# Altium footprint library SOT-23-6_L2.9-W1.6-P0.95-LS2.8-BL-1_2024-04-30.PcbLib: 1 footprints
Each footprint in its own frame and in the unit in brackets; x right, y up, seen from the top. Pads: shape width x height; smd on the part's side, far side on the other; paste and mask are expansions set on the pad; w line width, h text height; cw(c..) or ccw(c..) is an arc to the next point about the centre after c.
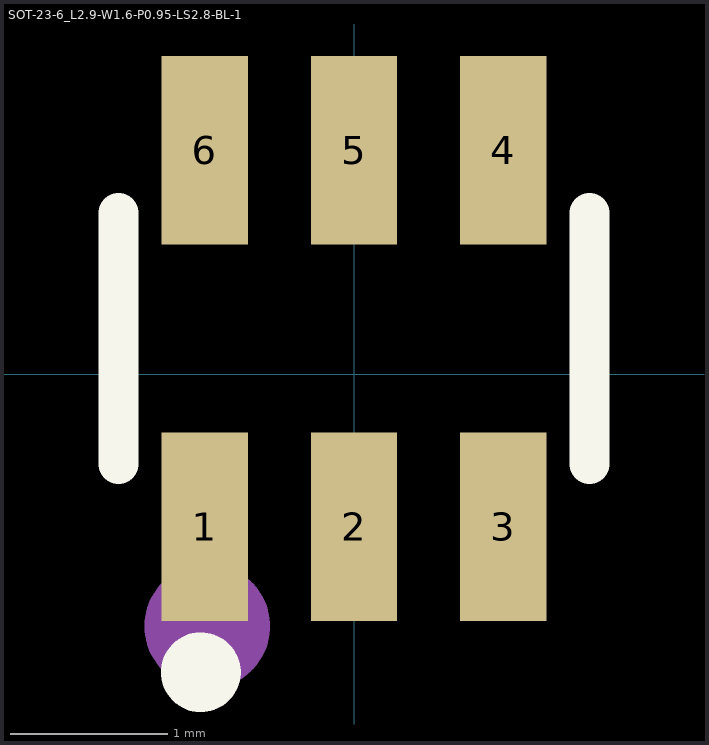
[diagram p0: the footprint, top view; thin cyan lines are the x and y axes]

## SOT-23-6_L2.9-W1.6-P0.95-LS2.8-BL-1 [mm]
pads (6):
  rect 0.55x1.2 smd paste+0 mask+0.051: 1(-0.95,-0.974) 2(0,-0.974) 3(0.95,-0.974) 4(0.95,1.426) 5(0,1.426) 6(-0.95,1.426)
Top Overlay:
  circle w0.254: c-0.975,-1.899 r0.127
  lines w0.254: -1.5,-0.574 -1.5,1.026 ; 1.5,-0.574 1.5,1.026
Mechanical 15:
  circle w0.4: c-0.934,-1.606 r0.2